# Altium schematic symbol library SMD1812P150TF_24.Schlib: 1 symbol
Pins are listed as number, name and electrical type; pins without a type are passive.

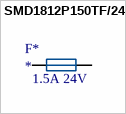
[diagram p0: symbol SMD1812P150TF/24]

## SMD1812P150TF/24
designator F*  value 1.5A 24V
PTC RESETTABLE FUSES 1812 ROHS; ComponentLink1Description: LCSC - RUILON(Shenzhen Ruilongyuan Elec) SMD1812P150TF/24; ComponentLink1URL: https://lcsc.com/product-detail/Surface-Mount-Fuses_1-5A-24V-Self-healing-type_C32404.html/?href=jlc-SMT; LCSC Part #: C32404; JLCPCB Part Type: Extended
footprint CH1812F (Chip Fuse, 1812)
pins: 1, 2